# EAGLE library part TMC2208PLATINE (library ROSnode)
PCB Version für MKS Drucker
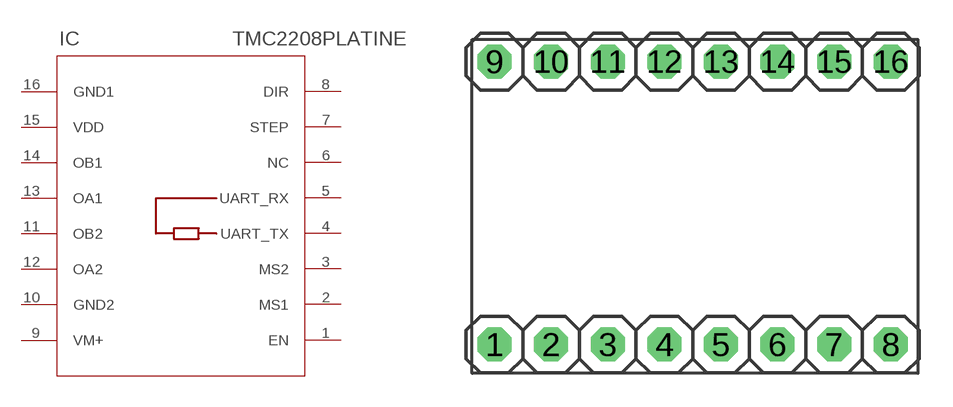
[diagram p2: symbol with the pads of 2X08_TMCBOARD; footprint 2X08_TMCBOARD]

Designator prefix IC

## TMC2208PLATINE (MF: TRINAMICS; MFN: TMC2208)  [2X08_TMCBOARD]
1  EN  in
2  MS1  in
3  MS2  in
4  UART_TX  out
5  UART_RX  in
6  NC  nc
7  STEP  in
8  DIR  in
9  VM+  pwr
10  GND2  pwr
11  OB2  out
12  OA2  out
13  OA1  out
14  OB1  out
15  VDD  pwr
16  GND1  pwr

## Footprint 2X08_TMCBOARD (pad centres in mm)
PIN HEADER
drill 1.016 octagon: 1 0,-12.7; 2 2.54,-12.7; 3 5.08,-12.7; 4 7.62,-12.7; 5 10.16,-12.7; 6 12.7,-12.7; 7 15.24,-12.7; 8 17.78,-12.7; 9 0,0; 10 2.54,0; 11 5.08,0; 12 7.62,0; 13 10.16,0; 14 12.7,0; 15 15.24,0; 16 17.78,0